# Altium schematic symbol library шины питания.SchLib: 5 symbols
Pins are listed as number, name and electrical type; pins without a type are passive.

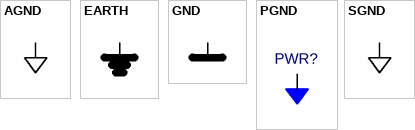
[diagram p0: symbols AGND to SGND]

## AGND
designator PWR?  (value not drawn)
Value: *
pins: 1 AGND (power)

## EARTH
designator PWR?  (value not drawn)
Value: *
pins: 1 EARTH (power)

## GND
designator PWR?  (value not drawn)
Value: *
pins: 1 GND (power)

## PGND
designator PWR?  (value not drawn)
Value: *
pins: 1 PGND (power)

## SGND
designator PWR?  (value not drawn)
Value: *
pins: 1 SGND (power)